# EAGLE library part ATTINY4 (library project121)
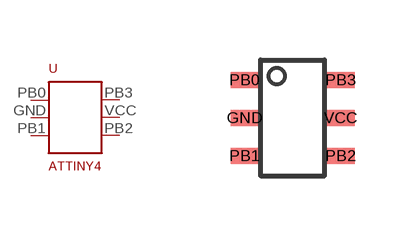
[diagram p3: symbol with the pads of ATTINY4; footprint ATTINY4]

Designator prefix U

## ATTINY4  [ATTINY4]
GND  GND  pwr
PB0  PB0
PB1  PB1
PB2  PB2
PB3  PB3
VCC  VCC  pwr

## Footprint ATTINY4 (pad centres in mm)
smd 0.7 x 0.4: GND 0,0.95; PB0 0,1.9; PB1 0,0; PB2 2.4,0; PB3 2.4,1.9; VCC 2.4,0.95